# EAGLE library part NARWAN-20POL (library Stiftleiste_Narvan)
Name des Bauteiles: -->Stiftleiste 2 x 10 Pol. Daten:Narwan: S1.60-i-25-1-20--14,5-4,5 , Sandwich, RM: 2,54 Artikelnummer:#201083 Datenblatt:www.alldatasheet.com __________________________________________ generated by Eagle Description Tool am : 07.02.2014 08:34:42 erstellt von: Hm
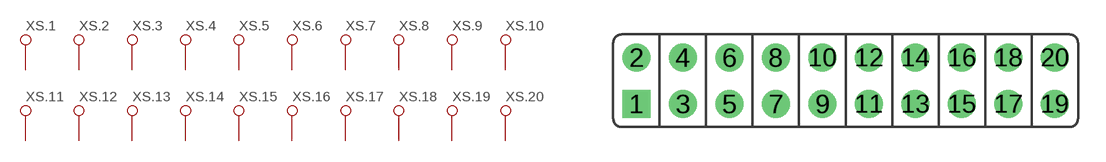
[diagram p0: symbol with the pads of S1.60-I-25-1-20--14,5-4,5; footprint S1.60-I-25-1-20--14,5-4,5]

Designator prefix XS; gates .1=1 .2=1 .3=1 .4=1 .5=1 .6=1 .7=1 .8=1 .9=1 .10=1 .11=1 .12=1 .13=1 .14=1 .15=1 .16=1 .17=1 .18=1 .19=1 .20=1

## NARWAN-20POL1  [S1.60-I-25-1-20--14,5-4,5]
1  .1:.1
2  .2:.1
3  .3:.1
4  .4:.1
5  .5:.1
6  .6:.1
7  .7:.1
8  .8:.1
9  .9:.1
10  .10:.1
11  .11:.1
12  .12:.1
13  .13:.1
14  .14:.1
15  .15:.1
16  .16:.1
17  .17:.1
18  .18:.1
19  .19:.1
20  .20:.1

## Footprint S1.60-I-25-1-20--14,5-4,5 (pad centres in mm)
drill 1 square: 1 -11.43,-1.27
drill 1: 2 -11.43,1.27; 3 -8.89,-1.27; 4 -8.89,1.27; 5 -6.35,-1.27; 6 -6.35,1.27; 7 -3.81,-1.27; 8 -3.81,1.27; 9 -1.27,-1.27; 10 -1.27,1.27; 11 1.27,-1.27; 12 1.27,1.27; 13 3.81,-1.27; 14 3.81,1.27; 15 6.35,-1.27; 16 6.35,1.27; 17 8.89,-1.27; 18 8.89,1.27; 19 11.43,-1.27; 20 11.43,1.27